# Altium footprint library IND_LEDS.PcbLib: 2 footprints
Each footprint in its own frame and in the unit in brackets; x right, y up, seen from the top. Pads: shape width x height; smd on the part's side, far side on the other; paste and mask are expansions set on the pad; w line width, h text height; cw(c..) or ccw(c..) is an arc to the next point about the centre after c.
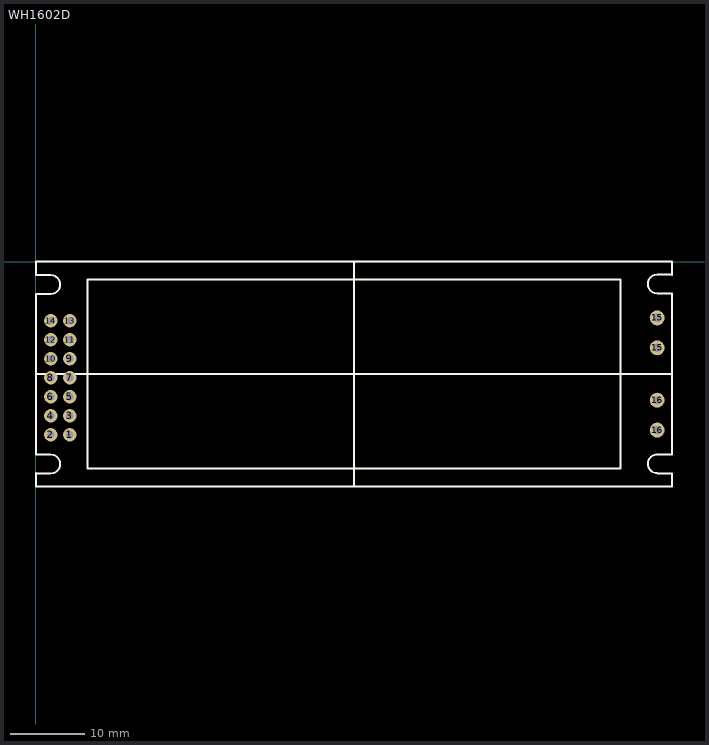
[diagram p0: the footprints below, top view; thin cyan lines are the x and y axes]

## PCBComponent_1 [mm]

## WH1602D [mm]
pads (18):
  round 1.8 hole 1: 1(4.54,-23.12) 2(2,-23.12) 3(4.54,-20.58) 4(2,-20.58) 5(4.54,-18.04) 6(2,-18.04) 7(4.54,-15.5) 8(2,-15.5) 9(4.54,-12.96) 10(2,-12.96) 11(4.54,-10.42) 12(2,-10.42) 13(4.54,-7.88) 14(2,-7.88)
  round 2 hole 1.1: 15(83,-11.5) 15(83,-7.5) 16(83,-22.5) 16(83,-18.5)
Top Overlay:
  lines w0.254: 0,-23.12 0,-7.88 0,-4.3 ; 0,-4.275 0,-4.3 ; 0,-1.75 0,-1.775 ; 2,-25.775 cw(c2,-27.025) 2,-28.275 0,-28.275 0,-28.25 0,-30 4.275,-30 80.763,-30 85,-30 85,-28.275 ; 2,-25.75 0,-25.75 ; 2,-23.375 2.025,-23.375 ; 2,-15 0,-15 ; 2,-7.25 2.025,-7.25 ; 2,-1.8 cw(c2,-3.05) 2,-4.3 0,-4.3 ; 2,-1.775 0,-1.775 ; 3.825,-23.125 3.825,-23.12 ; 42.5,-30 42.5,0 ; 78.075,-27.625 78.075,-27.6 78.1,-27.575 78.1,-15 ; 78.1,-27.6 42.5,-27.6 ; 78.1,-2.425 78.1,-2.4 ; 83,-28.275 85,-28.275 ; 83,-28.25 cw(c83,-27) 83,-25.75 85,-25.75 85,-25.775 ; 83,-22.5 83.8,-22.5 ; 83,-18.5 83.8,-18.5 ; 83,-15 85,-15 0,-15 ; 83,-11.5 83.8,-11.5 ; 83,-7.5 83.5,-7.5 ; 83,-4.25 85,-4.25 ; 83,-4.225 cw(c83,-2.975) 83,-1.725 85,-1.725 85,-1.75 ; 85,-28.3 85,-28.275 ; 85,-25.763 85,-4.25 ; 85,-4.275 85,-4.25 ; 85,-1.737 85,0 80.75,0 0,0 0,-1.775 ; 0,-25.75 0,-25.725 0,-4.3 ; 0,-25.75 0,-15 ; 6.9,-15 6.9,-27.6 42.5,-27.6 ; 6.9,-15 6.9,-2.4 42.5,-2.4 ; 6.9,-15 42.5,-15 ; 42.5,-27.6 42.5,-27.6 ; 42.5,-27.6 42.5,-15 ; 42.5,-15 42.5,-2.4 ; 42.5,-15 78.1,-15 ; 42.5,-2.4 78.1,-2.4 ; 42.5,-2.4 42.5,-2.4 ; 78.1,-15 78.1,-2.4